# EAGLE library part E18-MS1PA2 (library e18-ms1pa1-ipx)
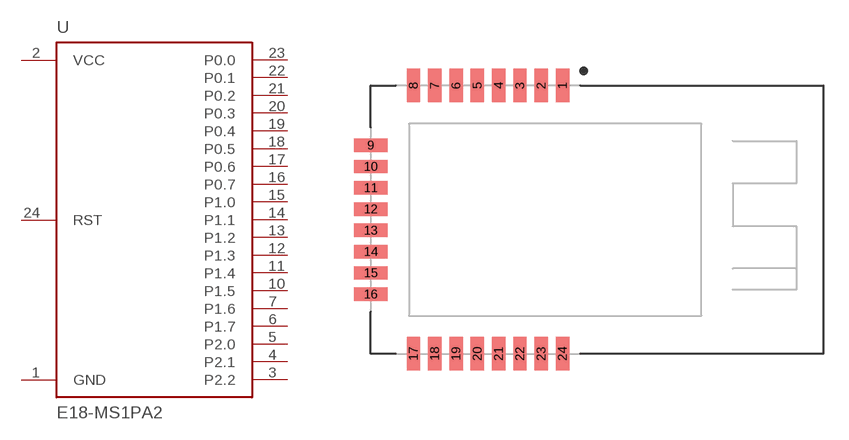
[diagram p1: symbol with the pads of E18-MS1PA2-PCB; footprint E18-MS1PA2-PCB]

Designator prefix U

## E18-MS1PA2-PCB (VALUE: E18-MS1PA2-PCB)  [E18-MS1PA2-PCB]
1  GND
2  VCC
3  P2.2
4  P2.1
5  P2.0
6  P1.7
7  P1.6
10  P1.5
11  P1.4
12  P1.3
13  P1.2
14  P1.1
15  P1.0
16  P0.7
17  P0.6
18  P0.5
19  P0.4
20  P0.3
21  P0.2
22  P0.1
23  P0.0
24  RST

## Footprint E18-MS1PA2-PCB (pad centres in mm)
smd 0.8 x 2: 1 11.44,8; 2 10.17,8; 3 8.9,8; 4 7.63,8; 5 6.36,8; 6 5.09,8; 7 3.82,8; 8 2.55,8; 17 2.55,-8; 18 3.82,-8; 19 5.09,-8; 20 6.36,-8; 21 7.63,-8; 22 8.9,-8; 23 10.17,-8; 24 11.44,-8
smd 2 x 0.8: 9 0,4.44; 10 0,3.17; 11 0,1.9; 12 0,0.63; 13 0,-0.64; 14 0,-1.91; 15 0,-3.18; 16 0,-4.45